# Altium footprint library UW_PR2_FINGERTIP_pcb.PcbLib: 12 footprints
Each footprint in its own frame and in the unit in brackets; x right, y up, seen from the top. Pads: shape width x height; smd on the part's side, far side on the other; paste and mask are expansions set on the pad; w line width, h text height; cw(c..) or ccw(c..) is an arc to the next point about the centre after c.
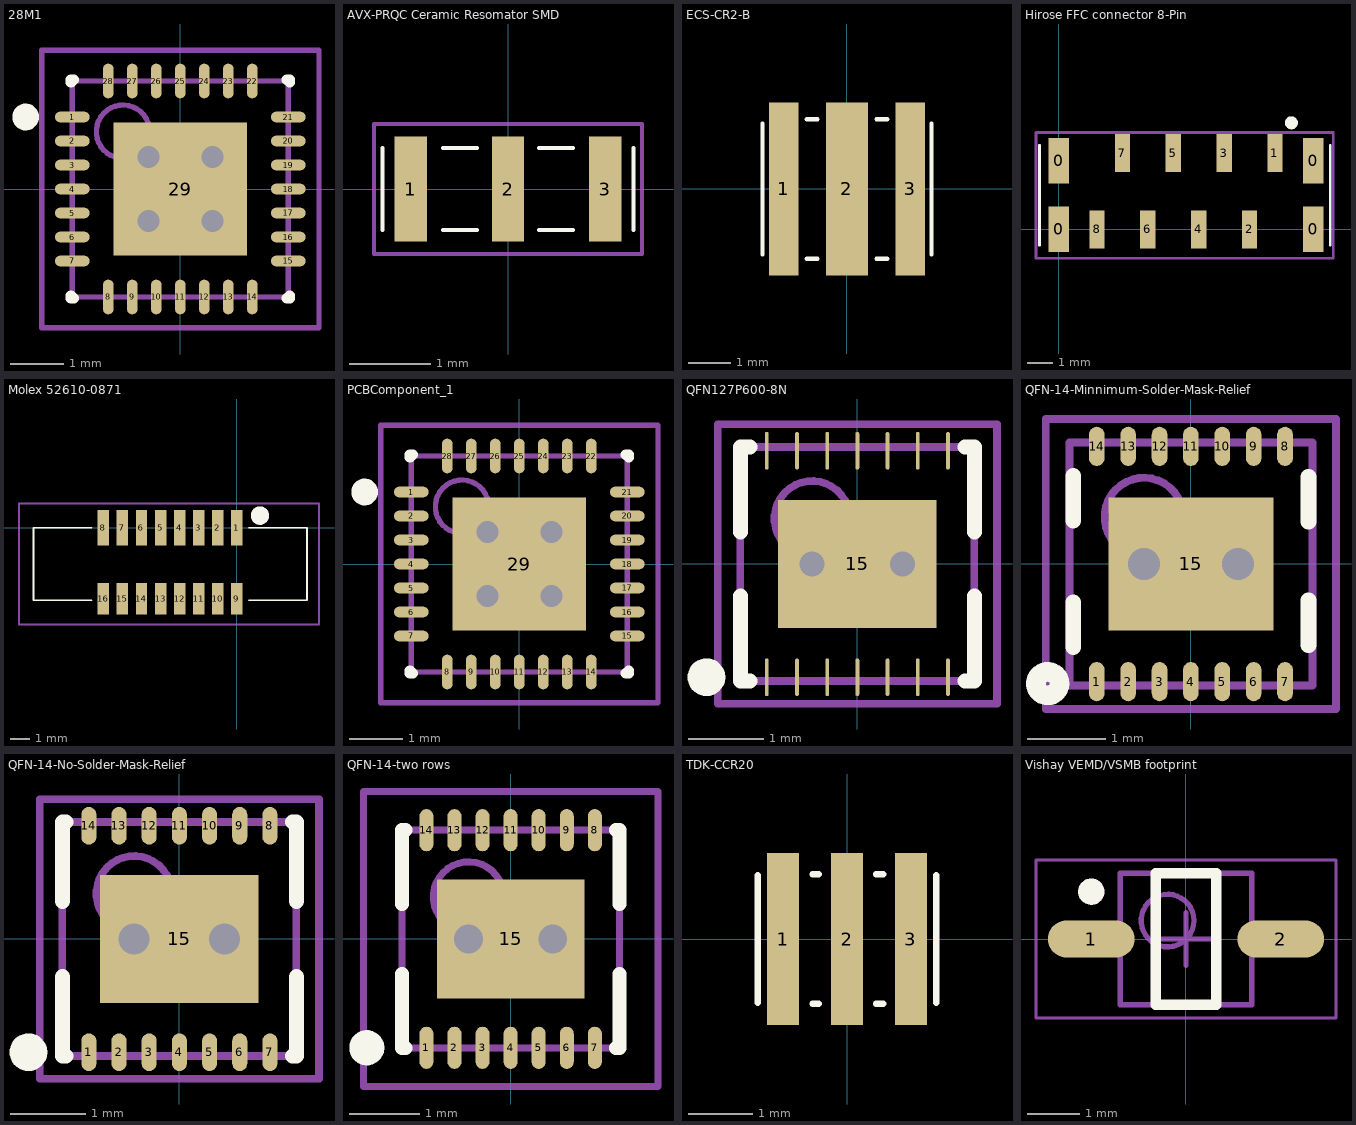
[diagram p0: the footprints below, top view; thin cyan lines are the x and y axes]

## 28M1 [mm] "QFN, 28 Body 4.0x4.0mm, Pitch 0.45mm, IPC Medium Density"
height 1
pads (29):
  oval 0.65x0.2 smd mask+0.06: 1(-2.025,1.35) 2(-2.025,0.9) 3(-2.025,0.45) 4(-2.025,0) 5(-2.025,-0.45) 6(-2.025,-0.9) 7(-2.025,-1.35) 15(2.025,-1.35) 16(2.025,-0.9) 17(2.025,-0.45) 18(2.025,0) 19(2.025,0.45) 20(2.025,0.9) 21(2.025,1.35)
  oval 0.2x0.65 smd mask+0.06: 8(-1.35,-2.025) 9(-0.9,-2.025) 10(-0.45,-2.025) 11(0,-2.025) 12(0.45,-2.025) 13(0.9,-2.025) 14(1.35,-2.025) 22(1.35,2.025) 23(0.9,2.025) 24(0.45,2.025) 25(0,2.025) 26(-0.45,2.025) 27(-0.9,2.025) 28(-1.35,2.025)
  rect 2.5x2.5 smd: 29(0,0)
via -0.6,0.6 diameter 0.8 hole 0.41
via 0.6,0.6 diameter 0.8 hole 0.41
via -0.6,-0.6 diameter 0.8 hole 0.41
via 0.6,-0.6 diameter 0.8 hole 0.41
Top Overlay:
  circle w0.25: c-2.9,1.35 r0.125
  lines w0.2: -2.05,-2 -2.05,-2.05 -2,-2.05 ; -2.05,2 -2.05,2.05 -2,2.05 ; 2,-2.05 2.05,-2.05 2.05,-2 ; 2,2.05 2.05,2.05 2.05,2
Mechanical 13:
  circle w0.1: c-1.075,1.075 r0.5
  lines w0.1: -2.025,-2.025 -2.025,2.025 2.025,2.025 2.025,-2.025 -2.025,-2.025
Mechanical 15:
  lines w0.1: -0.5,0 0.5,0 ; 0,-0.5 0,0.5 ; -2.6,-2.6 -2.6,2.6 2.6,2.6 2.6,-2.6 -2.6,-2.6
3D body: height 1, standoff 0.05, extent -2.025,-2.025 2.025,2.025

## AVX-PRQC Ceramic Resomator SMD [mm] "AVX-PRQC Ceramic Resomator SMD"
height 1.3
pads (3):
  rect 0.4x1.3 smd: 1(-1.2,0) 2(0,0) 3(1.2,0)
Top Overlay:
  lines w0.05: -1.55,-0.508 -1.55,0.508 ; -0.8,-0.508 -0.38,-0.508 ; -0.8,0.508 -0.381,0.508 ; 0.38,-0.508 0.8,-0.508 ; 0.38,0.508 0.8,0.508 ; 1.55,-0.508 1.55,0.508
Mechanical 15:
  lines w0.05: -1.65,-0.8 1.65,-0.8 1.65,0.8 -1.65,0.8 -1.65,-0.8

## ECS-CR2-B [mm] "ECS-CR2-B SMD CERAMIC RESONATOR"
height 1.2
pads (3):
  rect 0.7x4.1 smd: 1(-1.5,0) 3(1.5,0)
  rect 1x4.1 smd: 2(0,0)
Top Overlay:
  lines w0.1: -2,-1.55 -2,1.55 ; -0.95,-1.651 -0.7,-1.651 ; -0.95,1.651 -0.7,1.651 ; 0.701,-1.651 0.951,-1.651 ; 0.701,1.651 0.951,1.651 ; 2,-1.55 2,1.55

## Hirose FFC connector 8-Pin [mm] "Hirose FFC connector 8-Pin (FH12-8S-1SV)"
height 5.5
pads (12):
  rect 0.8x1.8 smd: 0(0,0) 0(0,2.7) 0(10,0) 0(10,2.7)
  rect 0.6x1.5 smd: 1(8.5,3) 2(7.5,0) 3(6.5,3) 4(5.5,0) 5(4.5,3) 6(3.5,0) 7(2.5,3) 8(1.5,0)
Top Overlay:
  circle w0.254: c9.144,4.191 r0.127
  lines w0.1: -0.762,-0.625 -0.762,3.302 ; 10.668,-0.625 10.668,3.302
Mechanical 15:
  lines w0.1: -0.9,-1.143 -0.9,3.81 10.795,3.81 10.795,-1.143 -0.9,-1.143

## Molex 52610-0871 [mm] "Molex 52610-0871"
height 6
pads (16):
  rect 0.6x1.85 smd: 1(0,0) 2(-1,0) 3(-2,0) 4(-3,0) 5(-4,0) 6(-5,0) 7(-6,0) 8(-7,0)
  rect 0.6x1.65 smd: 9(0,-3.725) 10(-1,-3.725) 11(-2,-3.725) 12(-3,-3.725) 13(-4,-3.725) 14(-5,-3.725) 15(-6,-3.725) 16(-7,-3.725)
Top Overlay:
  circle w0.6: c1.217,0.635 r0.18
  lines w0.1: -7.62,-3.81 -10.668,-3.81 -10.668,0 -7.62,0 ; 0.635,-3.81 3.683,-3.81 3.683,0 0.635,0
Mechanical 15:
  lines w0.1: -11.43,-5.08 4.318,-5.08 4.318,1.27 -11.43,1.27 -11.43,-5.08

## PCBComponent_1 [mm]
pads (29):
  oval 0.65x0.2 smd mask+0.06: 1(-2.025,1.35) 2(-2.025,0.9) 3(-2.025,0.45) 4(-2.025,0) 5(-2.025,-0.45) 6(-2.025,-0.9) 7(-2.025,-1.35) 15(2.025,-1.35) 16(2.025,-0.9) 17(2.025,-0.45) 18(2.025,0) 19(2.025,0.45) 20(2.025,0.9) 21(2.025,1.35)
  oval 0.2x0.65 smd mask+0.06: 8(-1.35,-2.025) 9(-0.9,-2.025) 10(-0.45,-2.025) 11(0,-2.025) 12(0.45,-2.025) 13(0.9,-2.025) 14(1.35,-2.025) 22(1.35,2.025) 23(0.9,2.025) 24(0.45,2.025) 25(0,2.025) 26(-0.45,2.025) 27(-0.9,2.025) 28(-1.35,2.025)
  rect 2.5x2.5 smd: 29(0,0)
via 0.6,-0.6 diameter 0.8 hole 0.41
via -0.6,-0.6 diameter 0.8 hole 0.41
via 0.6,0.6 diameter 0.8 hole 0.41
via -0.6,0.6 diameter 0.8 hole 0.41
Top Overlay:
  circle w0.25: c-2.9,1.35 r0.125
  lines w0.2: -2.05,-2 -2.05,-2.05 -2,-2.05 ; -2.05,2 -2.05,2.05 -2,2.05 ; 2,-2.05 2.05,-2.05 2.05,-2 ; 2,2.05 2.05,2.05 2.05,2
Mechanical 13:
  circle w0.1: c-1.075,1.075 r0.5
  lines w0.1: -2.025,-2.025 2.025,-2.025 2.025,2.025 -2.025,2.025 -2.025,-2.025
Mechanical 15:
  lines w0.1: -0.5,0 0.5,0 ; 0,-0.5 0,0.5 ; -2.6,-2.6 2.6,-2.6 2.6,2.6 -2.6,2.6 -2.6,-2.6
3D body: height 1, standoff 0.05, extent -2.025,-2.025 2.025,2.025

## QFN127P600-8N [mm]
height 0.8
pads (15):
  oval 0.05x0.5 smd: 1(-1.2,-1.5) 2(-0.8,-1.5) 4(0,-1.5) 5(0.4,-1.5) 6(0.8,-1.5) 7(1.2,-1.5) 8(1.2,1.5) 9(0.8,1.5) 10(0.4,1.5) 11(0,1.5) 12(-0.4,1.5) 13(-0.8,1.5) 14(-1.2,1.5)
  oval 0.05x0.5 smd mask+0: 3(-0.4,-1.5)
  rect 2.1x1.7 smd: 15(0,0)
via 0.6,0 diameter 0.66 hole 0.33
via -0.6,0 diameter 0.66 hole 0.33
Top Overlay:
  circle w0.25: c-2,-1.5 r0.125
  lines w0.2: -1.55,-0.425 -1.55,-1.55 -1.425,-1.55 ; -1.55,0.425 -1.55,1.55 -1.425,1.55 ; 1.425,-1.55 1.55,-1.55 1.55,-0.425 ; 1.425,1.55 1.55,1.55 1.55,0.425
Mechanical 13:
  circle w0.1: c-0.6,0.6 r0.5
  lines w0.1: -1.55,-1.55 1.55,-1.55 1.55,1.55 -1.55,1.55 -1.55,-1.55
Mechanical 15:
  lines w0.1: -0.5,0 0.5,0 ; 0,-0.5 0,0.5 ; -1.85,-1.85 1.85,-1.85 1.85,1.85 -1.85,1.85 -1.85,-1.85
3D body: height 0.8, standoff 0, extent -1.55,-1.55 1.55,1.55

## QFN-14-Minnimum-Solder-Mask-Relief [mm]
height 0.8
pads (15):
  oval 0.2x0.5 smd mask+0.03: 1(-1.2,-1.5) 2(-0.8,-1.5) 3(-0.4,-1.5) 4(0,-1.5) 5(0.4,-1.5) 6(0.8,-1.5) 7(1.2,-1.5) 8(1.2,1.5) 9(0.8,1.5) 10(0.4,1.5) 11(0,1.5) 12(-0.4,1.5)
  oval 0.2x0.5 smd mask+0.075: 13(-0.8,1.5) 14(-1.2,1.5)
  rect 2.1x1.7 smd: 15(0,0)
via -0.6,0 diameter 0.8 hole 0.41
via 0.6,0 diameter 0.8 hole 0.41
Top Overlay:
  circle w0.25: c-1.825,-1.525 r0.15
  lines w0.2: -1.5,-1.062 -1.5,-0.487 ; -1.5,0.55 -1.5,1.125 ; 1.5,-1.038 1.5,-0.463 ; 1.5,0.537 1.5,1.112
Mechanical 13:
  circle w0.1: c-0.6,0.6 r0.5
  lines w0.1: -1.55,-1.55 -1.55,1.55 1.55,1.55 1.55,-1.55 -1.55,-1.55
Mechanical 15:
  lines w0.1: -0.5,0 0.5,0 ; 0,-0.5 0,0.5 ; -1.85,-1.85 -1.85,1.85 1.85,1.85 1.85,-1.85 -1.85,-1.85
3D body: height 0.8, standoff 0, extent -1.55,-1.55 1.55,1.55

## QFN-14-No-Solder-Mask-Relief [mm]
height 0.8
pads (15):
  oval 0.2x0.5 smd mask+0: 1(-1.2,-1.5) 2(-0.8,-1.5) 3(-0.4,-1.5) 4(0,-1.5) 5(0.4,-1.5) 6(0.8,-1.5) 7(1.2,-1.5) 8(1.2,1.5) 9(0.8,1.5) 10(0.4,1.5) 11(0,1.5) 12(-0.4,1.5) 13(-0.8,1.5) 14(-1.2,1.5)
  rect 2.1x1.7 smd: 15(0,0)
via 0.6,0 diameter 0.8 hole 0.41
via -0.6,0 diameter 0.8 hole 0.41
Top Overlay:
  circle w0.25: c-2,-1.5 r0.125
  lines w0.2: -1.55,-0.5 -1.55,-1.55 -1.5,-1.55 ; -1.55,0.5 -1.55,1.55 -1.5,1.55 ; 1.5,-1.55 1.55,-1.55 1.55,-0.5 ; 1.5,1.55 1.55,1.55 1.55,0.5
Mechanical 13:
  circle w0.1: c-0.6,0.6 r0.5
  lines w0.1: -1.55,-1.55 1.55,-1.55 1.55,1.55 -1.55,1.55 -1.55,-1.55
Mechanical 15:
  lines w0.1: -0.5,0 0.5,0 ; 0,-0.5 0,0.5 ; -1.85,-1.85 1.85,-1.85 1.85,1.85 -1.85,1.85 -1.85,-1.85
3D body: height 0.8, standoff 0, extent -1.55,-1.55 1.55,1.55

## QFN-14-two rows [mm] "QFN14-two rows"
height 0.8
pads (15):
  oval 0.2x0.6 smd mask+0.14: 1(-1.2,-1.55)
  oval 0.2x0.6 smd: 2(-0.8,-1.55) 3(-0.4,-1.55) 4(0,-1.55) 5(0.4,-1.55) 6(0.8,-1.55) 7(1.2,-1.55) 8(1.2,1.55) 9(0.8,1.55) 10(0.4,1.55) 11(0,1.55) 12(-0.4,1.55) 13(-0.8,1.55) 14(-1.2,1.55)
  rect 2.1x1.7 smd: 15(0,0)
via -0.6,0 diameter 0.8 hole 0.41
via 0.6,0 diameter 0.8 hole 0.41
Top Overlay:
  circle w0.25: c-2.05,-1.55 r0.125
  lines w0.2: -1.55,-0.5 -1.55,-1.55 -1.5,-1.55 ; -1.55,0.5 -1.55,1.55 -1.5,1.55 ; 1.5,-1.55 1.55,-1.55 1.55,-0.5 ; 1.5,1.55 1.55,1.55 1.55,0.5
Mechanical 13:
  circle w0.1: c-0.6,0.6 r0.5
  lines w0.1: -1.55,-1.55 -1.55,1.55 1.55,1.55 1.55,-1.55 -1.55,-1.55
Mechanical 15:
  lines w0.1: -0.5,0 0.5,0 ; 0,-0.5 0,0.5 ; -2.1,-2.1 -2.1,2.1 2.1,2.1 2.1,-2.1 -2.1,-2.1
3D body: height 0.8, standoff 0, extent -1.55,-1.55 1.55,1.55

## TDK-CCR20 [mm] "TDK Ceramic Resonator CCR20.0MXC7T"
height 1
pads (3):
  rect 0.5x2.7 smd: 1(-1,0) 2(0,0) 3(1,0)
Top Overlay:
  lines w0.1: -1.397,-1 -1.397,1 ; -0.54,-1.016 -0.44,-1.016 ; -0.54,1.016 -0.44,1.016 ; 0.455,-1.016 0.565,-1.016 ; 0.455,1.016 0.565,1.016 ; 1.397,-1 1.397,1

## Vishay VEMD/VSMB footprint [mm] "SOP, 2-Leads, Body 2.30x2.30mm, Pitch 1.27mm, IPC Medium Density"
height 2.97
pads (2):
  oval 1.65x0.7 smd: 1(-1.8,0) 2(1.8,0)
Top Overlay:
  circle w0.25: c-1.8,0.9 r0.125
  lines w0.2: -0.575,-1.25 0.575,-1.25 0.575,1.25 -0.575,1.25 -0.575,-1.25
Mechanical 13:
  circle w0.1: c-0.35,0.35 r0.5
  lines w0.1: -1.25,-1.25 1.25,-1.25 1.25,1.25 -1.25,1.25 -1.25,-1.25
Mechanical 15:
  lines w0.05: -2.85,-1.5 2.85,-1.5 2.85,1.5 -2.85,1.5 -2.85,-1.5
  lines w0.1: -0.5,0 0.5,0 ; 0,-0.5 0,0.5
3D body: height 2.97, standoff 0.05, extent -1.25,-1.25 1.25,1.25